# Altium integrated library Motorola Communication Receiver.IntLib: 11 symbols
Pins are listed as number, name and electrical type; pins without a type are passive.

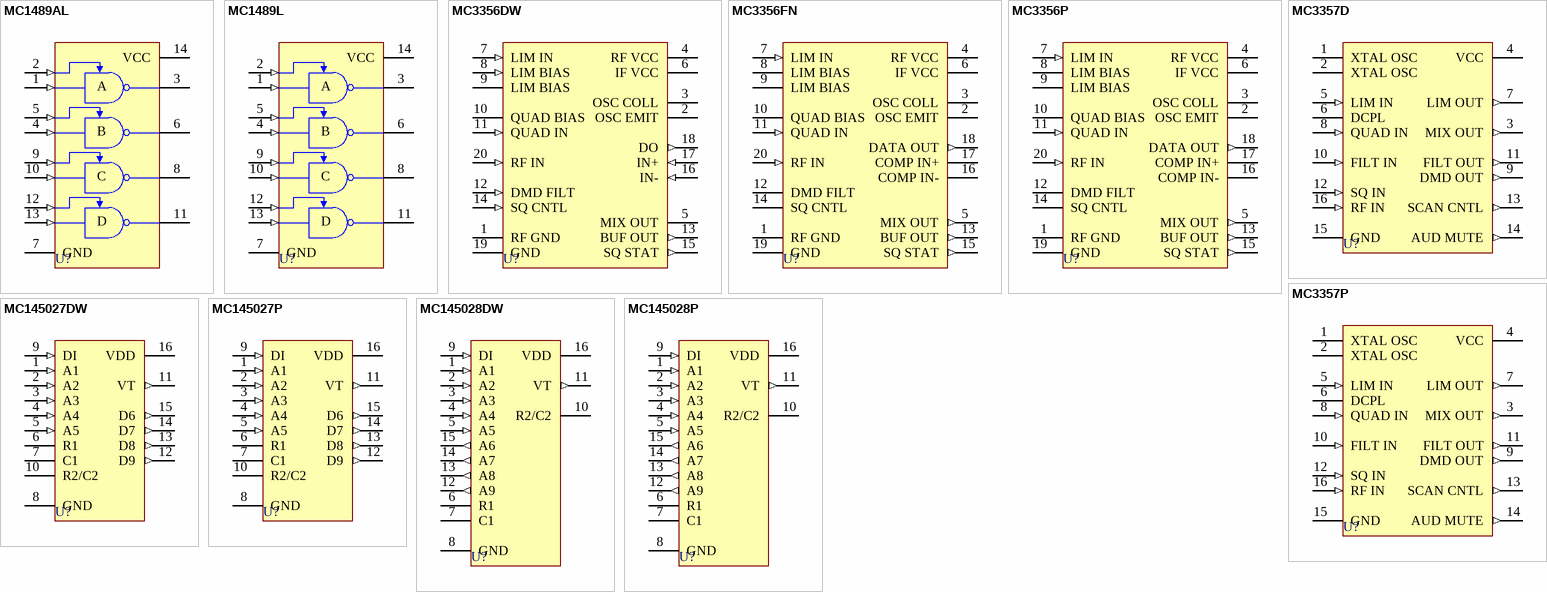
[diagram p0: symbols MC1489AL to MC145028P]

## MC1489AL
designator U?
Quad MDTL Line Receiver; Published: 17-Jul-2002; LatestRevisionDate: 06-Jun-2005; LatestRevisionNote: Stylized 3D Model Added.; DatasheetVersion: 1988; PackageReference: 632-08; Publisher: Altium Limited; PackageDescription: DIP; 14 Leads; Row Spacing 7.62 mm; Pitch 2.54 mm
footprint 632-08 (DIP; 14 Leads; Row Spacing 7.62 mm; Pitch 2.54 mm)
3D model 632-08 (DIP; 14 Leads; Row Spacing 7.62 mm; Pitch 2.54 mm)
pins: 1 IN (in), 2 CNTL (in), 3 OUT (oc), 4 IN (in), 5 CNTL (in), 6 OUT (oc), 7 GND (power), 8 OUT (oc), 9 CNTL (in), 10 IN (in), 11 OUT (oc), 12 CNTL (in), 13 IN (in), 14 VCC (power)
text: A; B; C; D

## MC1489L
designator U?
Quad MDTL Line Receiver; Published: 17-Jul-2002; LatestRevisionDate: 06-Jun-2005; LatestRevisionNote: Stylized 3D Model Added.; DatasheetVersion: 1988; PackageReference: 632-08; Publisher: Altium Limited; PackageDescription: DIP; 14 Leads; Row Spacing 7.62 mm; Pitch 2.54 mm
footprint 632-08 (DIP; 14 Leads; Row Spacing 7.62 mm; Pitch 2.54 mm)
3D model 632-08 (DIP; 14 Leads; Row Spacing 7.62 mm; Pitch 2.54 mm)
pins: 1 IN (in), 2 CNTL (in), 3 OUT (oc), 4 IN (in), 5 CNTL (in), 6 OUT (oc), 7 GND (power), 8 OUT (oc), 9 CNTL (in), 10 IN (in), 11 OUT (oc), 12 CNTL (in), 13 IN (in), 14 VCC (power)
text: A; B; C; D

## MC3356DW
designator U?
Wideband FSK Receiver; Published: 28-Feb-2003; LatestRevisionDate: 13-Apr-2006; LatestRevisionNote: IPC-7351 Footprint Added.; DatasheetVersion: 1996, Rev. 0; PackageReference: 751D-03; Publisher: Altium Limited; PackageDescription: 20-Pin Small Outline Integrated Circuit 1.27 mm Pitch
footprint 751D-03_N (SOIC, 20-Leads, Body 12.8x7.5mm, Pitch 1.27mm, IPC Medium Density)
footprint 751D-03_L (SOIC, 20-Leads, Body 12.8x7.5mm, Pitch 1.27mm, IPC High Density)
footprint 751D-03_M (SOIC, 20-Leads, Body 12.8x7.5mm, Pitch 1.27mm, IPC Low Density)
3D model 751D-03 (20-Pin Small Outline Integrated Circuit 1.27 mm Pitch)
pins: 1 RF GND (power), 2 OSC EMIT, 3 OSC COLL, 4 RF VCC (power), 5 MIX OUT (oc), 6 IF VCC (power), 7 LIM IN (in), 8 LIM BIAS (in), 9 LIM BIAS, 10 QUAD BIAS, 11 QUAD IN (in), 12 DMD FILT (in), 13 BUF OUT (out), 14 SQ CNTL (in), 15 SQ STAT (out), 16 IN- (in), 17 IN+ (in), 18 DO (out), 19 GND (power), 20 RF IN (in)

## MC3356FN
designator U?
Wideband FSK Receiver; Published: 17-Jul-2002; LatestRevisionDate: 13-Apr-2006; LatestRevisionNote: IPC-7351 Footprint Added.; DatasheetVersion: 1988; PackageReference: 775-02; Publisher: Altium Limited; PackageDescription: 20-Pin Leaded Chip Carrier 1.27 mm Pitch
footprint 775-02_N (Leaded Chip Carrier, 20-Leads, Body 9x9mm, Pitch 1.27mm, IPC Medium Density)
footprint 775-02_L (Leaded Chip Carrier, 20-Leads, Body 9x9mm, Pitch 1.27mm, IPC High Density)
footprint 775-02_M (Leaded Chip Carrier, 20-Leads, Body 9x9mm, Pitch 1.27mm, IPC Low Density)
3D model MC3356-755-02 (20-Pin Leaded Chip Carrier 1.27 mm Pitch)
pins: 1 RF GND (power), 2 OSC EMIT, 3 OSC COLL, 4 RF VCC (power), 5 MIX OUT (out), 6 IF VCC (power), 7 LIM IN (in), 8 LIM BIAS, 9 LIM BIAS, 10 QUAD BIAS, 11 QUAD IN (in), 12 DMD FILT, 13 BUF OUT (out), 14 SQ CNTL, 15 SQ STAT (out), 16 COMP IN-, 17 COMP IN+, 18 DATA OUT (out), 19 GND (power), 20 RF IN (in)

## MC3356P
designator U?
Wideband FSK Receiver; Published: 17-Jul-2002; LatestRevisionDate: 06-Jun-2005; LatestRevisionNote: Stylized 3D Model Added.; DatasheetVersion: 1988; PackageReference: 738-03; Publisher: Altium Limited; PackageDescription: DIP; 20 Leads; Row Spacing 7.62 mm; Pitch 2.54 mm; Code_JEDEC: MS-001-AD
footprint 738-03 (DIP; 20 Leads; Row Spacing 7.62 mm; Pitch 2.54 mm)
3D model 738-03 (DIP; 20 Leads; Row Spacing 7.62 mm; Pitch 2.54 mm)
pins: 1 RF GND (power), 2 OSC EMIT, 3 OSC COLL, 4 RF VCC (power), 5 MIX OUT (out), 6 IF VCC (power), 7 LIM IN (in), 8 LIM BIAS, 9 LIM BIAS, 10 QUAD BIAS, 11 QUAD IN (in), 12 DMD FILT, 13 BUF OUT (out), 14 SQ CNTL, 15 SQ STAT (out), 16 COMP IN-, 17 COMP IN+, 18 DATA OUT (out), 19 GND (power), 20 RF IN (in)

## MC3357D
designator U?
Low-Power FM IF; Published: 17-Jul-2002; LatestRevisionDate: 13-Apr-2006; LatestRevisionNote: IPC-7351 Footprint Added.; DatasheetVersion: 1988; PackageVersion: 1991; PackageReference: 751B-03; Publisher: Altium Limited; PackageDescription: 16-Pin Small Outline Integrated Circuit 1.27 mm Pitch; Code_JEDEC: MS-012-AC; Code_IPC: SOIC127P600-16
footprint 751B-03_N (SOIC, 16-Leads, Body 9.9x3.9mm, Pitch 1.27mm, IPC Medium Density)
footprint 751B-03_L (SOIC, 16-Leads, Body 9.9x3.9mm, Pitch 1.27mm, IPC High Density)
footprint 751B-03_M (SOIC, 16-Leads, Body 9.9x3.9mm, Pitch 1.27mm, IPC Low Density)
3D model 751B-03 (16-Pin Small Outline Integrated Circuit 1.27 mm Pitch)
pins: 1 XTAL OSC, 2 XTAL OSC, 3 MIX OUT (out), 4 VCC (power), 5 LIM IN (in), 6 DCPL, 7 LIM OUT (out), 8 QUAD IN (in), 9 DMD OUT (out), 10 FILT IN (in), 11 FILT OUT (out), 12 SQ IN (in), 13 SCAN CNTL (out), 14 AUD MUTE (out), 15 GND (power), 16 RF IN (in)

## MC3357P
designator U?
Low-Power FM IF; Published: 17-Jul-2002; LatestRevisionDate: 06-Jun-2005; LatestRevisionNote: Stylized 3D Model Added.; DatasheetVersion: 1988; PackageReference: 648-06; Publisher: Altium Limited; PackageDescription: DIP; 16 Leads; Row Spacing 7.62 mm; Pitch 2.54 mm
footprint 648-06 (DIP; 16 Leads; Row Spacing 7.62 mm; Pitch 2.54 mm)
3D model 648-06 (DIP; 16 Leads; Row Spacing 7.62 mm; Pitch 2.54 mm)
pins: 1 XTAL OSC, 2 XTAL OSC, 3 MIX OUT (out), 4 VCC (power), 5 LIM IN (in), 6 DCPL, 7 LIM OUT (out), 8 QUAD IN (in), 9 DMD OUT (out), 10 FILT IN (in), 11 FILT OUT (out), 12 SQ IN (in), 13 SCAN CNTL (out), 14 AUD MUTE (out), 15 GND (power), 16 RF IN (in)

## MC145027DW
designator U?
Remote Control Decoder; Published: 17-Jul-2002; LatestRevisionDate: 13-Apr-2006; LatestRevisionNote: IPC-7351 Footprint Added.; DatasheetVersion: 1991; PackageReference: 751G-01; Publisher: Altium Limited; PackageDescription: 16-Pin Small Outline Integrated Circuit 1.27 mm Pitch
footprint 751G-01_N (SOIC, 16-Leads, Body 10.3x7.5mm, Pitch 1.27mm, IPC Medium Density)
footprint 751G-01_L (SOIC, 16-Leads, Body 10.3x7.5mm, Pitch 1.27mm, IPC High Density)
footprint 751G-01_M (SOIC, 16-Leads, Body 10.3x7.5mm, Pitch 1.27mm, IPC Low Density)
3D model 751G-01 (16-Pin Small Outline Integrated Circuit 1.27 mm Pitch)
pins: 1 A1 (in), 2 A2 (in), 3 A3 (in), 4 A4 (in), 5 A5 (in), 6 R1, 7 C1, 8 GND (power), 9 DI (in), 10 R2/C2, 11 VT (out), 12 D9 (out), 13 D8 (out), 14 D7 (out), 15 D6 (out), 16 VDD (power)

## MC145027P
designator U?
Remote Control Decoder; Published: 17-Jul-2002; LatestRevisionDate: 06-Jun-2005; LatestRevisionNote: Stylized 3D Model Added.; DatasheetVersion: 1991; PackageReference: 648-08; Publisher: Altium Limited; PackageDescription: DIP; 16 Leads; Row Spacing 7.62 mm; Pitch 2.54 mm; Code_JEDEC: MS-001-BB
footprint 648-08 (DIP; 16 Leads; Row Spacing 7.62 mm; Pitch 2.54 mm)
3D model 648-08 (DIP; 16 Leads; Row Spacing 7.62 mm; Pitch 2.54 mm)
pins: 1 A1 (in), 2 A2 (in), 3 A3 (in), 4 A4 (in), 5 A5 (in), 6 R1, 7 C1, 8 GND (power), 9 DI (in), 10 R2/C2, 11 VT (out), 12 D9 (out), 13 D8 (out), 14 D7 (out), 15 D6 (out), 16 VDD (power)

## MC145028DW
designator U?
Remote Control Decoder; Published: 17-Jul-2002; LatestRevisionDate: 13-Apr-2006; LatestRevisionNote: IPC-7351 Footprint Added.; DatasheetVersion: 1991; PackageReference: 751G-01; Publisher: Altium Limited; PackageDescription: 16-Pin Small Outline Integrated Circuit 1.27 mm Pitch
footprint 751G-01_N (SOIC, 16-Leads, Body 10.3x7.5mm, Pitch 1.27mm, IPC Medium Density)
footprint 751G-01_L (SOIC, 16-Leads, Body 10.3x7.5mm, Pitch 1.27mm, IPC High Density)
footprint 751G-01_M (SOIC, 16-Leads, Body 10.3x7.5mm, Pitch 1.27mm, IPC Low Density)
3D model 751G-01 (16-Pin Small Outline Integrated Circuit 1.27 mm Pitch)
pins: 1 A1 (in), 2 A2 (in), 3 A3 (in), 4 A4 (in), 5 A5 (in), 6 R1, 7 C1, 8 GND (power), 9 DI (in), 10 R2/C2, 11 VT (out), 12 A9 (out), 13 A8 (out), 14 A7 (out), 15 A6 (out), 16 VDD (power)

## MC145028P
designator U?
Remote Control Decoder; Published: 17-Jul-2002; LatestRevisionDate: 06-Jun-2005; LatestRevisionNote: Stylized 3D Model Added.; DatasheetVersion: 1991; PackageReference: 648-08; Publisher: Altium Limited; PackageDescription: DIP; 16 Leads; Row Spacing 7.62 mm; Pitch 2.54 mm; Code_JEDEC: MS-001-BB
footprint 648-08 (DIP; 16 Leads; Row Spacing 7.62 mm; Pitch 2.54 mm)
3D model 648-08 (DIP; 16 Leads; Row Spacing 7.62 mm; Pitch 2.54 mm)
pins: 1 A1 (in), 2 A2 (in), 3 A3 (in), 4 A4 (in), 5 A5 (in), 6 R1, 7 C1, 8 GND (power), 9 DI (in), 10 R2/C2, 11 VT (out), 12 A9 (out), 13 A8 (out), 14 A7 (out), 15 A6 (out), 16 VDD (power)